# Altium integrated library NSC ADC.IntLib: 493 symbols (part 7 of 17)
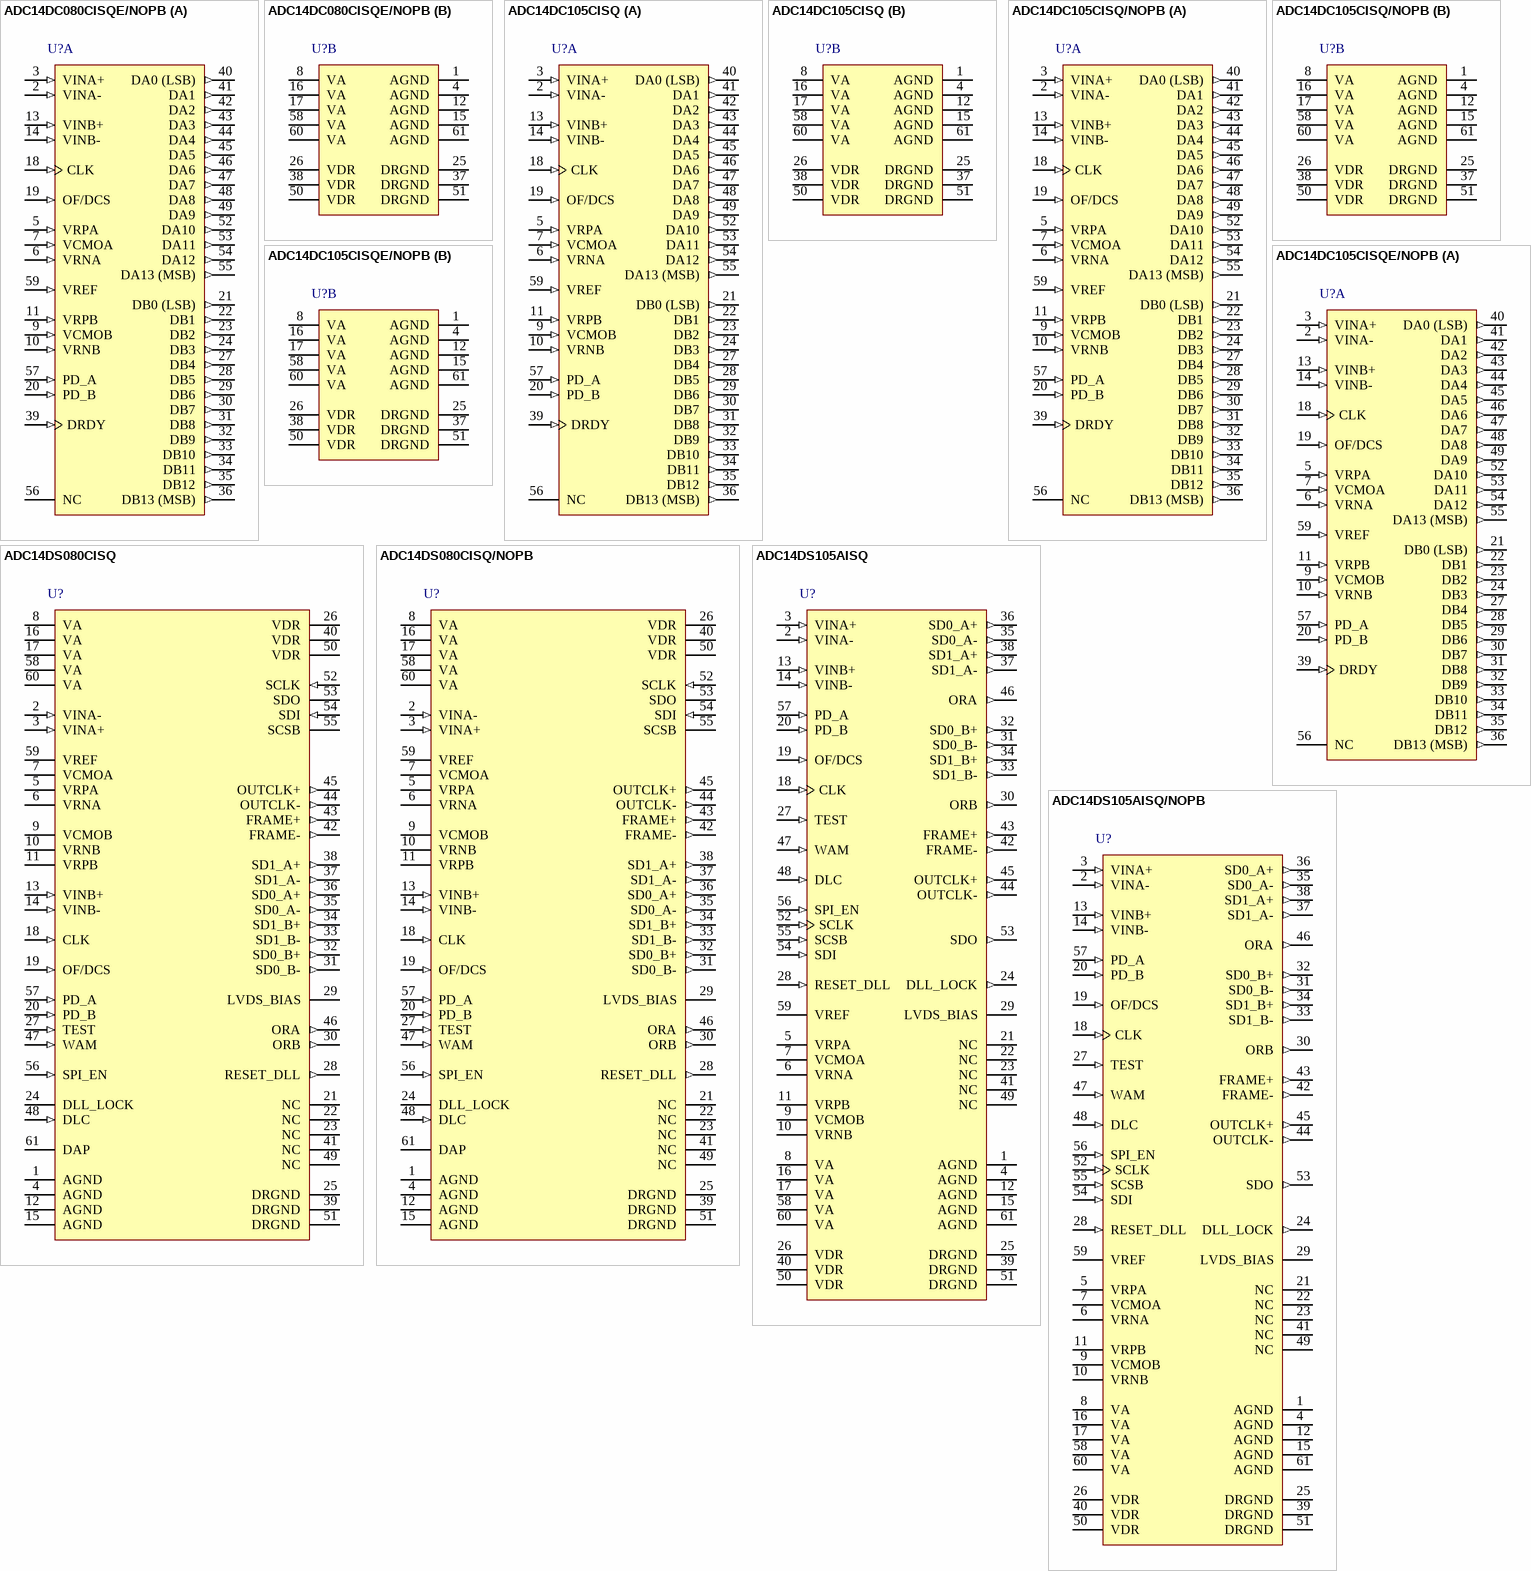
[diagram p42: symbols ADC14DC080CISQE/NOPB to ADC14DS105AISQ/NOPB]

## ADC14DS080CISQ
designator U?
Dual 14-Bit, 80 MSPS A/D Converter with Serial LVDS Outputs, 61-pin LLP; PartNumber: ADC14DS080CISQ; Manufacturer: National Semiconductor; PackageTopMarking: NS*UZXYTT*14DS080; PowerWise: Y; CompType: ADC IC; Published: 4-Dec-2008; DatasheetVersion: Dec-2007; PackageVersion: revA, Jun-2005; PackageReference: SQA60A; Publisher: Altium Limited; PackageDescription: LLP, Quad, 9 x 9 x 0.8mm, 60 Lead, 0.5mm Pitch, No Pullback; RoHS: Y; PinCount: 60; ComponentLink1Description: ADC14DS080 Datasheet; ComponentLink1URL: http://www.national.com/ds/AD/ADC14DS080.pdf; ComponentLink2Description: ADC14DS080 Web Page; ComponentLink2URL: http://www.national.com/pf/AD/ADC14DS080.html; ComponentLink3Description: SQA60A Package Page; ComponentLink3URL: http://www.national.com/packaging/folders/sqa60a.html
footprint SQA60A (QFN, 60-Leads, Body 9x9mm, Pitch 0.5mm, NSC Recommended)
pins: 1 AGND (power), 2 VINA- (in), 3 VINA+ (in), 4 AGND (power), 5 VRPA, 6 VRNA, 7 VCMOA, 8 VA (power), 9 VCMOB, 10 VRNB, 11 VRPB, 12 AGND (power), 13 VINB+ (in), 14 VINB- (in), 15 AGND (power), 16 VA (power), 17 VA (power), 18 CLK (in), 19 OF/DCS (in), 20 PD_B (in), 21 NC, 22 NC, 23 NC, 24 DLL_LOCK, 25 DRGND (power), 26 VDR, 27 TEST (in), 28 RESET_DLL (out), 29 LVDS_BIAS, 30 ORB (out), 31 SD0_B- (out), 32 SD0_B+ (out), 33 SD1_B- (out), 34 SD1_B+ (out), 35 SD0_A- (out), 36 SD0_A+ (out), 37 SD1_A- (out), 38 SD1_A+ (out), 39 DRGND (power), 40 VDR, 41 NC, 42 FRAME- (out), 43 FRAME+ (out), 44 OUTCLK- (out), 45 OUTCLK+ (out), 46 ORA (out), 47 WAM (in), 48 DLC (in), 49 NC, 50 VDR, 51 DRGND (power), 52 SCLK (in), 53 SDO (hiz), 54 SDI (in), 55 SCSB, 56 SPI_EN (in), 57 PD_A (in), 58 VA (power), 59 VREF, 60 VA (power), 61 DAP

## ADC14DS080CISQ/NOPB
designator U?
Dual 14-Bit, 80 MSPS A/D Converter with Serial LVDS Outputs, 60-pin LLP, Pb-Free; PartNumber: ADC14DS080CISQ/NOPB; Manufacturer: National Semiconductor; PackageTopMarking: NS*UZXYTTE#*14DS080; PowerWise: Y; CompType: ADC IC; Published: 1-Mar-2010; DatasheetVersion: Dec-2007; PackageVersion: revA, Jun-2005; PackageReference: SQA60A; Publisher: Altium Limited; PackageDescription: LLP, Quad, 9 x 9 x 0.8mm, 60 Lead, 0.5mm Pitch, No Pullback; Supplier 1: Digi-Key; Supplier Part Number 1: ADC14DS080CISQTR-ND; Supplier 2: Digi-Key; Supplier Part Number 2: ADC14DS080CISQCT-ND; Supplier 3: Digi-Key; Supplier Part Number 3: ADC14DS080CISQDKR-ND; Supplier 4: Farnell; Supplier Part Number 4: 1673966; RoHS: Y; PinCount: 60; ComponentLink1Description: ADC14DS080 Datasheet; ComponentLink1URL: http://www.national.com/ds/AD/ADC14DS080.pdf; ComponentLink2Description: ADC14DS080 Web Page; ComponentLink2URL: http://www.national.com/pf/AD/ADC14DS080.html; ComponentLink3Description: SQA60A Package Page; ComponentLink3URL: http://www.national.com/packaging/folders/sqa60a.html
footprint SQA60A (QFN, 60-Leads, Body 9x9mm, Pitch 0.5mm, NSC Recommended)
pins: 1 AGND (power), 2 VINA- (in), 3 VINA+ (in), 4 AGND (power), 5 VRPA, 6 VRNA, 7 VCMOA, 8 VA (power), 9 VCMOB, 10 VRNB, 11 VRPB, 12 AGND (power), 13 VINB+ (in), 14 VINB- (in), 15 AGND (power), 16 VA (power), 17 VA (power), 18 CLK (in), 19 OF/DCS (in), 20 PD_B (in), 21 NC, 22 NC, 23 NC, 24 DLL_LOCK, 25 DRGND (power), 26 VDR, 27 TEST (in), 28 RESET_DLL (out), 29 LVDS_BIAS, 30 ORB (out), 31 SD0_B- (out), 32 SD0_B+ (out), 33 SD1_B- (out), 34 SD1_B+ (out), 35 SD0_A- (out), 36 SD0_A+ (out), 37 SD1_A- (out), 38 SD1_A+ (out), 39 DRGND (power), 40 VDR, 41 NC, 42 FRAME- (out), 43 FRAME+ (out), 44 OUTCLK- (out), 45 OUTCLK+ (out), 46 ORA (out), 47 WAM (in), 48 DLC (in), 49 NC, 50 VDR, 51 DRGND (power), 52 SCLK (in), 53 SDO (hiz), 54 SDI (in), 55 SCSB, 56 SPI_EN (in), 57 PD_A (in), 58 VA (power), 59 VREF, 60 VA (power), 61 DAP

## ADC14DS105AISQ
designator U?
Dual 14-Bit, 105 MSPS A/D Converter with Serial LVDS Outputs, 61-pin LLP; PartNumber: ADC14DS105AISQ; Manufacturer: National Semiconductor; PackageTopMarking: NS*UZXYTT*14DS105A; PowerWise: N; CompType: ADC IC; Published: 4-Dec-2008; DatasheetVersion: Dec-2007; PackageVersion: revA, Jun-2005; PackageReference: SQA60A; Publisher: Altium Limited; PackageDescription: LLP, Quad, 9 x 9 x 0.8mm, 60 Lead, 0.5mm Pitch, No Pullback; RoHS: Y; PinCount: 60; ComponentLink1Description: ADC14DS105 Datasheet; ComponentLink1URL: http://www.national.com/ds/AD/ADC14DS105.pdf; ComponentLink2Description: ADC14DS105 Web Page; ComponentLink2URL: http://www.national.com/pf/AD/ADC14DS105.html; ComponentLink3Description: SQA60A Package Page; ComponentLink3URL: http://www.national.com/packaging/folders/sqa60a.html
footprint SQA60A (QFN, 60-Leads, Body 9x9mm, Pitch 0.5mm, NSC Recommended)
pins: 1 AGND (power), 2 VINA- (in), 3 VINA+ (in), 4 AGND (power), 5 VRPA, 6 VRNA, 7 VCMOA, 8 VA (power), 9 VCMOB, 10 VRNB, 11 VRPB, 12 AGND (power), 13 VINB+ (in), 14 VINB- (in), 15 AGND (power), 16 VA (power), 17 VA (power), 18 CLK (in), 19 OF/DCS (in), 20 PD_B (in), 21 NC, 22 NC, 23 NC, 24 DLL_LOCK (out), 25 DRGND (power), 26 VDR (power), 27 TEST (in), 28 RESET_DLL (in), 29 LVDS_BIAS, 30 ORB (out), 31 SD0_B- (out), 32 SD0_B+ (out), 33 SD1_B- (out), 34 SD1_B+ (out), 35 SD0_A- (out), 36 SD0_A+ (out), 37 SD1_A- (out), 38 SD1_A+ (out), 39 DRGND (power), 40 VDR (power), 41 NC, 42 FRAME- (out), 43 FRAME+ (out), 44 OUTCLK- (out), 45 OUTCLK+ (out), 46 ORA (out), 47 WAM (in), 48 DLC (in), 49 NC, 50 VDR (power), 51 DRGND (power), 52 SCLK (in), 53 SDO (out), 54 SDI (in), 55 SCSB (in), 56 SPI_EN (in), 57 PD_A (in), 58 VA (power), 59 VREF (power), 60 VA (power), 61 AGND (power)

## ADC14DS105AISQ/NOPB
designator U?
Dual 14-Bit, 105 MSPS A/D Converter with Serial LVDS Outputs, 60-pin LLP, Pb-Free; PartNumber: ADC14DS105AISQ/NOPB; Manufacturer: National Semiconductor; PackageTopMarking: NS*UZXYTTE#*14DS105A; PowerWise: N; CompType: ADC IC; Published: 1-Mar-2010; DatasheetVersion: Dec-2007; PackageVersion: revA, Jun-2005; PackageReference: SQA60A; Publisher: Altium Limited; PackageDescription: LLP, Quad, 9 x 9 x 0.8mm, 60 Lead, 0.5mm Pitch, No Pullback; Supplier 1: Digi-Key; Supplier Part Number 1: ADC14DS105AISQTR-ND; Supplier 2: Digi-Key; Supplier Part Number 2: ADC14DS105AISQCT-ND; Supplier 3: Digi-Key; Supplier Part Number 3: ADC14DS105AISQDKR-ND; RoHS: Y; PinCount: 60; ComponentLink1Description: ADC14DS105 Datasheet; ComponentLink1URL: http://www.national.com/ds/AD/ADC14DS105.pdf; ComponentLink2Description: ADC14DS105 Web Page; ComponentLink2URL: http://www.national.com/pf/AD/ADC14DS105.html; ComponentLink3Description: SQA60A Package Page; ComponentLink3URL: http://www.national.com/packaging/folders/sqa60a.html
footprint SQA60A (QFN, 60-Leads, Body 9x9mm, Pitch 0.5mm, NSC Recommended)
pins: 1 AGND (power), 2 VINA- (in), 3 VINA+ (in), 4 AGND (power), 5 VRPA, 6 VRNA, 7 VCMOA, 8 VA (power), 9 VCMOB, 10 VRNB, 11 VRPB, 12 AGND (power), 13 VINB+ (in), 14 VINB- (in), 15 AGND (power), 16 VA (power), 17 VA (power), 18 CLK (in), 19 OF/DCS (in), 20 PD_B (in), 21 NC, 22 NC, 23 NC, 24 DLL_LOCK (out), 25 DRGND (power), 26 VDR (power), 27 TEST (in), 28 RESET_DLL (in), 29 LVDS_BIAS, 30 ORB (out), 31 SD0_B- (out), 32 SD0_B+ (out), 33 SD1_B- (out), 34 SD1_B+ (out), 35 SD0_A- (out), 36 SD0_A+ (out), 37 SD1_A- (out), 38 SD1_A+ (out), 39 DRGND (power), 40 VDR (power), 41 NC, 42 FRAME- (out), 43 FRAME+ (out), 44 OUTCLK- (out), 45 OUTCLK+ (out), 46 ORA (out), 47 WAM (in), 48 DLC (in), 49 NC, 50 VDR (power), 51 DRGND (power), 52 SCLK (in), 53 SDO (out), 54 SDI (in), 55 SCSB (in), 56 SPI_EN (in), 57 PD_A (in), 58 VA (power), 59 VREF (power), 60 VA (power), 61 AGND (power)

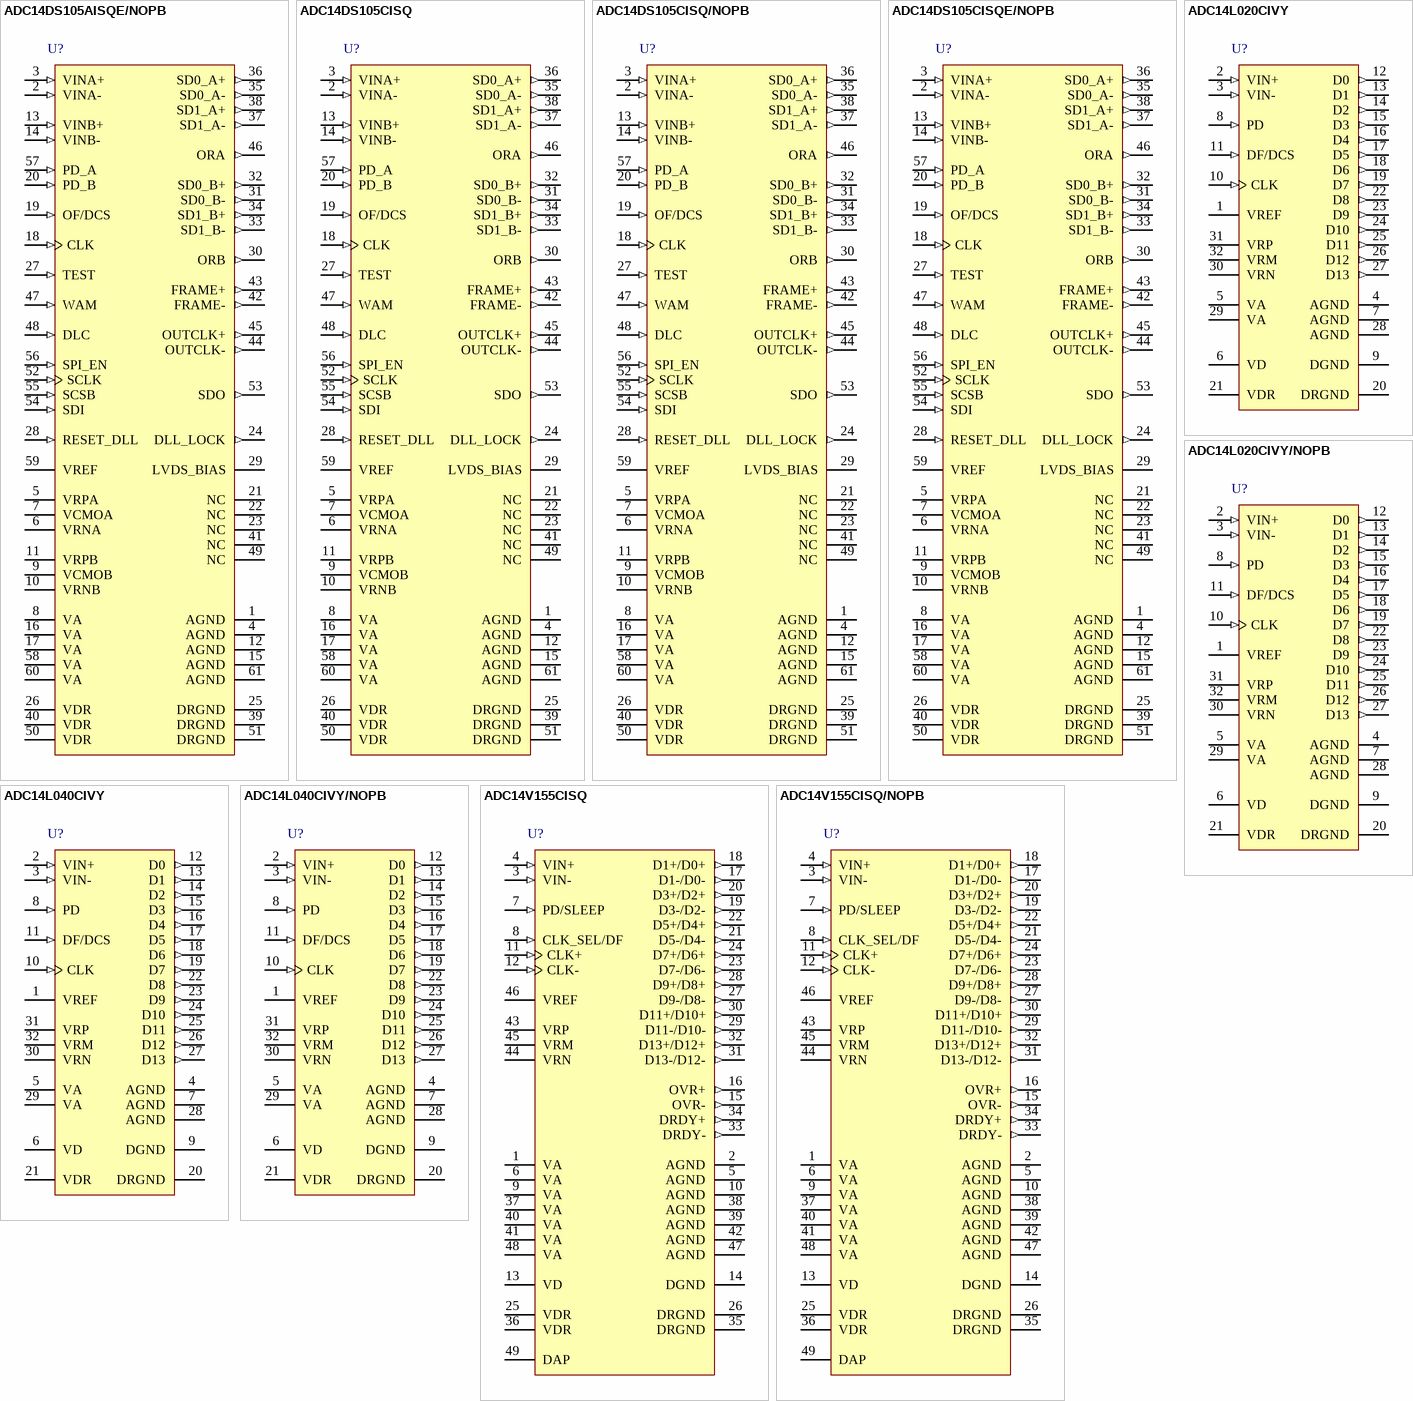
[diagram p21: symbols ADC14DS105AISQE/NOPB to ADC14V155CISQ/NOPB]

## ADC14DS105AISQE/NOPB
designator U?
Dual 14-Bit, 105 MSPS A/D Converter with Serial LVDS Outputs, 60-pin LLP, Pb-Free; PartNumber: ADC14DS105AISQE/NOPB; Manufacturer: National Semiconductor; PackageTopMarking: NS*UZXYTTE#*14DS105A; PowerWise: N; CompType: ADC IC; Published: 1-Mar-2010; DatasheetVersion: Dec-2007; PackageVersion: revA, Jun-2005; PackageReference: SQA60A; Publisher: Altium Limited; PackageDescription: LLP, Quad, 9 x 9 x 0.8mm, 60 Lead, 0.5mm Pitch, No Pullback; Supplier 1: Digi-Key; Supplier Part Number 1: ADC14DS105AISQE-ND; RoHS: Y; PinCount: 60; ComponentLink1Description: ADC14DS105 Datasheet; ComponentLink1URL: http://www.national.com/ds/AD/ADC14DS105.pdf; ComponentLink2Description: ADC14DS105 Web Page; ComponentLink2URL: http://www.national.com/pf/AD/ADC14DS105.html; ComponentLink3Description: SQA60A Package Page; ComponentLink3URL: http://www.national.com/packaging/folders/sqa60a.html
footprint SQA60A (QFN, 60-Leads, Body 9x9mm, Pitch 0.5mm, NSC Recommended)
pins: 1 AGND (power), 2 VINA- (in), 3 VINA+ (in), 4 AGND (power), 5 VRPA, 6 VRNA, 7 VCMOA, 8 VA (power), 9 VCMOB, 10 VRNB, 11 VRPB, 12 AGND (power), 13 VINB+ (in), 14 VINB- (in), 15 AGND (power), 16 VA (power), 17 VA (power), 18 CLK (in), 19 OF/DCS (in), 20 PD_B (in), 21 NC, 22 NC, 23 NC, 24 DLL_LOCK (out), 25 DRGND (power), 26 VDR (power), 27 TEST (in), 28 RESET_DLL (in), 29 LVDS_BIAS, 30 ORB (out), 31 SD0_B- (out), 32 SD0_B+ (out), 33 SD1_B- (out), 34 SD1_B+ (out), 35 SD0_A- (out), 36 SD0_A+ (out), 37 SD1_A- (out), 38 SD1_A+ (out), 39 DRGND (power), 40 VDR (power), 41 NC, 42 FRAME- (out), 43 FRAME+ (out), 44 OUTCLK- (out), 45 OUTCLK+ (out), 46 ORA (out), 47 WAM (in), 48 DLC (in), 49 NC, 50 VDR (power), 51 DRGND (power), 52 SCLK (in), 53 SDO (out), 54 SDI (in), 55 SCSB (in), 56 SPI_EN (in), 57 PD_A (in), 58 VA (power), 59 VREF (power), 60 VA (power), 61 AGND (power)

## ADC14DS105CISQ
designator U?
Dual 14-Bit, 105 MSPS A/D Converter with Serial LVDS Outputs, 61-pin LLP; PartNumber: ADC14DS105CISQ; Manufacturer: National Semiconductor; PackageTopMarking: NS*UZXYTT*14DS105C; PowerWise: Y; CompType: ADC IC; Published: 4-Dec-2008; DatasheetVersion: Dec-2007; PackageVersion: revA, Jun-2005; PackageReference: SQA60A; Publisher: Altium Limited; PackageDescription: LLP, Quad, 9 x 9 x 0.8mm, 60 Lead, 0.5mm Pitch, No Pullback; RoHS: N; PinCount: 60; ComponentLink1Description: ADC14DS105 Datasheet; ComponentLink1URL: http://www.national.com/ds/AD/ADC14DS105.pdf; ComponentLink2Description: ADC14DS105 Web Page; ComponentLink2URL: http://www.national.com/pf/AD/ADC14DS105.html; ComponentLink3Description: SQA60A Package Page; ComponentLink3URL: http://www.national.com/packaging/folders/sqa60a.html
footprint SQA60A (QFN, 60-Leads, Body 9x9mm, Pitch 0.5mm, NSC Recommended)
pins: 1 AGND (power), 2 VINA- (in), 3 VINA+ (in), 4 AGND (power), 5 VRPA, 6 VRNA, 7 VCMOA, 8 VA (power), 9 VCMOB, 10 VRNB, 11 VRPB, 12 AGND (power), 13 VINB+ (in), 14 VINB- (in), 15 AGND (power), 16 VA (power), 17 VA (power), 18 CLK (in), 19 OF/DCS (in), 20 PD_B (in), 21 NC, 22 NC, 23 NC, 24 DLL_LOCK (out), 25 DRGND (power), 26 VDR (power), 27 TEST (in), 28 RESET_DLL (in), 29 LVDS_BIAS, 30 ORB (out), 31 SD0_B- (out), 32 SD0_B+ (out), 33 SD1_B- (out), 34 SD1_B+ (out), 35 SD0_A- (out), 36 SD0_A+ (out), 37 SD1_A- (out), 38 SD1_A+ (out), 39 DRGND (power), 40 VDR (power), 41 NC, 42 FRAME- (out), 43 FRAME+ (out), 44 OUTCLK- (out), 45 OUTCLK+ (out), 46 ORA (out), 47 WAM (in), 48 DLC (in), 49 NC, 50 VDR (power), 51 DRGND (power), 52 SCLK (in), 53 SDO (out), 54 SDI (in), 55 SCSB (in), 56 SPI_EN (in), 57 PD_A (in), 58 VA (power), 59 VREF (power), 60 VA (power), 61 AGND (power)

## ADC14DS105CISQ/NOPB
designator U?
Dual 14-Bit, 105 MSPS A/D Converter with Serial LVDS Outputs, 60-pin LLP, Pb-Free; PartNumber: ADC14DS105CISQ/NOPB; Manufacturer: National Semiconductor; PackageTopMarking: NS*UZXYTTE#*14DS105C; PowerWise: Y; CompType: ADC IC; Published: 1-Mar-2010; DatasheetVersion: Dec-2007; PackageVersion: revA, Jun-2005; PackageReference: SQA60A; Publisher: Altium Limited; PackageDescription: LLP, Quad, 9 x 9 x 0.8mm, 60 Lead, 0.5mm Pitch, No Pullback; Supplier 1: Digi-Key; Supplier Part Number 1: ADC14DS105CISQ-ND; RoHS: Y; PinCount: 60; ComponentLink1Description: ADC14DS105 Datasheet; ComponentLink1URL: http://www.national.com/ds/AD/ADC14DS105.pdf; ComponentLink2Description: ADC14DS105 Web Page; ComponentLink2URL: http://www.national.com/pf/AD/ADC14DS105.html; ComponentLink3Description: SQA60A Package Page; ComponentLink3URL: http://www.national.com/packaging/folders/sqa60a.html
footprint SQA60A (QFN, 60-Leads, Body 9x9mm, Pitch 0.5mm, NSC Recommended)
pins: 1 AGND (power), 2 VINA- (in), 3 VINA+ (in), 4 AGND (power), 5 VRPA, 6 VRNA, 7 VCMOA, 8 VA (power), 9 VCMOB, 10 VRNB, 11 VRPB, 12 AGND (power), 13 VINB+ (in), 14 VINB- (in), 15 AGND (power), 16 VA (power), 17 VA (power), 18 CLK (in), 19 OF/DCS (in), 20 PD_B (in), 21 NC, 22 NC, 23 NC, 24 DLL_LOCK (out), 25 DRGND (power), 26 VDR (power), 27 TEST (in), 28 RESET_DLL (in), 29 LVDS_BIAS, 30 ORB (out), 31 SD0_B- (out), 32 SD0_B+ (out), 33 SD1_B- (out), 34 SD1_B+ (out), 35 SD0_A- (out), 36 SD0_A+ (out), 37 SD1_A- (out), 38 SD1_A+ (out), 39 DRGND (power), 40 VDR (power), 41 NC, 42 FRAME- (out), 43 FRAME+ (out), 44 OUTCLK- (out), 45 OUTCLK+ (out), 46 ORA (out), 47 WAM (in), 48 DLC (in), 49 NC, 50 VDR (power), 51 DRGND (power), 52 SCLK (in), 53 SDO (out), 54 SDI (in), 55 SCSB (in), 56 SPI_EN (in), 57 PD_A (in), 58 VA (power), 59 VREF (power), 60 VA (power), 61 AGND (power)

## ADC14DS105CISQE/NOPB
designator U?
Dual 14-Bit, 105 MSPS A/D Converter with Serial LVDS Outputs, 60-pin LLP, Pb-Free; PartNumber: ADC14DS105CISQE/NOPB; Manufacturer: National Semiconductor; PackageTopMarking: NS*UZXYTTE#*14DS105C; PowerWise: N; CompType: ADC IC; Published: 1-Mar-2010; DatasheetVersion: Dec-2007; PackageVersion: revA, Jun-2005; PackageReference: SQA60A; Publisher: Altium Limited; PackageDescription: LLP, Quad, 9 x 9 x 0.8mm, 60 Lead, 0.5mm Pitch, No Pullback; Supplier 1: Digi-Key; Supplier Part Number 1: ADC14DS105CISQETR-ND; Supplier 2: Digi-Key; Supplier Part Number 2: ADC14DS105CISQECT-ND; Supplier 3: Digi-Key; Supplier Part Number 3: ADC14DS105CISQEDKR-ND; RoHS: Y; PinCount: 60; ComponentLink1Description: ADC14DS105 Datasheet; ComponentLink1URL: http://www.national.com/ds/AD/ADC14DS105.pdf; ComponentLink2Description: ADC14DS105 Web Page; ComponentLink2URL: http://www.national.com/pf/AD/ADC14DS105.html; ComponentLink3Description: SQA60A Package Page; ComponentLink3URL: http://www.national.com/packaging/folders/sqa60a.html
footprint SQA60A (QFN, 60-Leads, Body 9x9mm, Pitch 0.5mm, NSC Recommended)
pins: 1 AGND (power), 2 VINA- (in), 3 VINA+ (in), 4 AGND (power), 5 VRPA, 6 VRNA, 7 VCMOA, 8 VA (power), 9 VCMOB, 10 VRNB, 11 VRPB, 12 AGND (power), 13 VINB+ (in), 14 VINB- (in), 15 AGND (power), 16 VA (power), 17 VA (power), 18 CLK (in), 19 OF/DCS (in), 20 PD_B (in), 21 NC, 22 NC, 23 NC, 24 DLL_LOCK (out), 25 DRGND (power), 26 VDR (power), 27 TEST (in), 28 RESET_DLL (in), 29 LVDS_BIAS, 30 ORB (out), 31 SD0_B- (out), 32 SD0_B+ (out), 33 SD1_B- (out), 34 SD1_B+ (out), 35 SD0_A- (out), 36 SD0_A+ (out), 37 SD1_A- (out), 38 SD1_A+ (out), 39 DRGND (power), 40 VDR (power), 41 NC, 42 FRAME- (out), 43 FRAME+ (out), 44 OUTCLK- (out), 45 OUTCLK+ (out), 46 ORA (out), 47 WAM (in), 48 DLC (in), 49 NC, 50 VDR (power), 51 DRGND (power), 52 SCLK (in), 53 SDO (out), 54 SDI (in), 55 SCSB (in), 56 SPI_EN (in), 57 PD_A (in), 58 VA (power), 59 VREF (power), 60 VA (power), 61 AGND (power)

## ADC14L020CIVY
designator U?
14-Bit, 20 MSPS, 150mW A/D Converter, 32-pin LQFP; PartNumber: ADC14L020CIVY; Manufacturer: National Semiconductor; PackageTopMarking: NSUZXYTT*ADC14L0*20CIVY; PowerWise: Y; CompType: ADC IC; Published: 4-Dec-2008; DatasheetVersion: Sep-2005; PackageVersion: revE, Dec-1999; PackageReference: VBE32A; Publisher: Altium Limited; PackageDescription: LQFP, JEDEC, Metric, 7 x 7 x 1.4mm, 32 Lead; Supplier 1: Farnell; Supplier Part Number 1: 1554775; RoHS: N; PinCount: 32; ComponentLink1Description: ADC14L020 Datasheet; ComponentLink1URL: http://www.national.com/ds/AD/ADC14L020.pdf; ComponentLink2Description: ADC14L020 Web Page; ComponentLink2URL: http://www.national.com/pf/AD/ADC14L020.html; ComponentLink3Description: VBE32A Package Page; ComponentLink3URL: http://www.national.com/packaging/folders/vbe32a.html
footprint VBE32A_N (Thin QFP, 32-Leads, Body 7x7mm, Pitch 0.8mm, IPC Medium Density)
footprint VBE32A_L (Thin QFP, 32-Leads, Body 7x7mm, Pitch 0.8mm, IPC High Density)
footprint VBE32A_M (Thin QFP, 32-Leads, Body 7x7mm, Pitch 0.8mm, IPC Low Density)
pins: 1 VREF (power), 2 VIN+ (in), 3 VIN- (in), 4 AGND (power), 5 VA (power), 6 VD (power), 7 AGND (power), 8 PD (in), 9 DGND (power), 10 CLK (in), 11 DF/DCS (in), 12 D0 (out), 13 D1 (out), 14 D2 (out), 15 D3 (out), 16 D4 (out), 17 D5 (out), 18 D6 (out), 19 D7 (out), 20 DRGND (power), 21 VDR (power), 22 D8 (out), 23 D9 (out), 24 D10 (out), 25 D11 (out), 26 D12 (out), 27 D13 (out), 28 AGND (power), 29 VA (power), 30 VRN, 31 VRP, 32 VRM

## ADC14L020CIVY/NOPB
designator U?
14-Bit, 20 MSPS, 150mW A/D Converter, 32-pin LQFP, Pb-Free; PartNumber: ADC14L020CIVY/NOPB; Manufacturer: National Semiconductor; PackageTopMarking: NSUZXYTT*ADC14L0*20CIVY; PowerWise: Y; CompType: ADC IC; Published: 1-Mar-2010; DatasheetVersion: Sep-2005; PackageVersion: revE, Dec-1999; PackageReference: VBE32A; Publisher: Altium Limited; PackageDescription: LQFP, JEDEC, Metric, 7 x 7 x 1.4mm, 32 Lead; Supplier 1: Digi-Key; Supplier Part Number 1: ADC14L020CIVY-ND; Supplier 2: Farnell; Supplier Part Number 2: 1609383; RoHS: Y; PinCount: 32; ComponentLink1Description: ADC14L020 Datasheet; ComponentLink1URL: http://www.national.com/ds/AD/ADC14L020.pdf; ComponentLink2Description: ADC14L020 Web Page; ComponentLink2URL: http://www.national.com/pf/AD/ADC14L020.html; ComponentLink3Description: VBE32A Package Page; ComponentLink3URL: http://www.national.com/packaging/folders/vbe32a.html
footprint VBE32A_N (Thin QFP, 32-Leads, Body 7x7mm, Pitch 0.8mm, IPC Medium Density)
footprint VBE32A_L (Thin QFP, 32-Leads, Body 7x7mm, Pitch 0.8mm, IPC High Density)
footprint VBE32A_M (Thin QFP, 32-Leads, Body 7x7mm, Pitch 0.8mm, IPC Low Density)
pins: 1 VREF (power), 2 VIN+ (in), 3 VIN- (in), 4 AGND (power), 5 VA (power), 6 VD (power), 7 AGND (power), 8 PD (in), 9 DGND (power), 10 CLK (in), 11 DF/DCS (in), 12 D0 (out), 13 D1 (out), 14 D2 (out), 15 D3 (out), 16 D4 (out), 17 D5 (out), 18 D6 (out), 19 D7 (out), 20 DRGND (power), 21 VDR (power), 22 D8 (out), 23 D9 (out), 24 D10 (out), 25 D11 (out), 26 D12 (out), 27 D13 (out), 28 AGND (power), 29 VA (power), 30 VRN, 31 VRP, 32 VRM

## ADC14L040CIVY
designator U?
14-Bit, 40 MSPS, 235 mW A/D Converter, 32-pin LQFP; PartNumber: ADC14L040CIVY; Manufacturer: National Semiconductor; PackageTopMarking: NSUZXYTT*ADC14L0*40CIVY; PowerWise: Y; CompType: ADC IC; Published: 4-Dec-2008; DatasheetVersion: Jun-2005; PackageVersion: revE, Dec-1999; PackageReference: VBE32A; Publisher: Altium Limited; PackageDescription: LQFP, JEDEC, Metric, 7 x 7 x 1.4mm, 32 Lead; Supplier 1: Farnell; Supplier Part Number 1: 1554776; RoHS: N; PinCount: 32; ComponentLink1Description: ADC14L040 Datasheet; ComponentLink1URL: http://www.national.com/ds/AD/ADC14L040.pdf; ComponentLink2Description: ADC14L040 Web Page; ComponentLink2URL: http://www.national.com/pf/AD/ADC14L040.html; ComponentLink3Description: VBE32A Package Page; ComponentLink3URL: http://www.national.com/packaging/folders/vbe32a.html
footprint VBE32A_N (Thin QFP, 32-Leads, Body 7x7mm, Pitch 0.8mm, IPC Medium Density)
footprint VBE32A_L (Thin QFP, 32-Leads, Body 7x7mm, Pitch 0.8mm, IPC High Density)
footprint VBE32A_M (Thin QFP, 32-Leads, Body 7x7mm, Pitch 0.8mm, IPC Low Density)
pins: 1 VREF (power), 2 VIN+ (in), 3 VIN- (in), 4 AGND (power), 5 VA (power), 6 VD (power), 7 AGND (power), 8 PD (in), 9 DGND (power), 10 CLK (in), 11 DF/DCS (in), 12 D0 (out), 13 D1 (out), 14 D2 (out), 15 D3 (out), 16 D4 (out), 17 D5 (out), 18 D6 (out), 19 D7 (out), 20 DRGND (power), 21 VDR (power), 22 D8 (out), 23 D9 (out), 24 D10 (out), 25 D11 (out), 26 D12 (out), 27 D13 (out), 28 AGND (power), 29 VA (power), 30 VRN, 31 VRP, 32 VRM

## ADC14L040CIVY/NOPB
designator U?
14-Bit, 40 MSPS, 235 mW A/D Converter, 32-pin LQFP, Pb-Free; PartNumber: ADC14L040CIVY/NOPB; Manufacturer: National Semiconductor; PackageTopMarking: NSUZXYTT*ADC14L0*40CIVY; PowerWise: Y; CompType: ADC IC; Published: 1-Mar-2010; DatasheetVersion: Jun-2005; PackageVersion: revE, Dec-1999; PackageReference: VBE32A; Publisher: Altium Limited; PackageDescription: LQFP, JEDEC, Metric, 7 x 7 x 1.4mm, 32 Lead; Supplier 1: Digi-Key; Supplier Part Number 1: ADC14L040CIVY-ND; Supplier 2: Farnell; Supplier Part Number 2: 1620762; RoHS: Y; PinCount: 32; ComponentLink1Description: ADC14L040 Datasheet; ComponentLink1URL: http://www.national.com/ds/AD/ADC14L040.pdf; ComponentLink2Description: ADC14L040 Web Page; ComponentLink2URL: http://www.national.com/pf/AD/ADC14L040.html; ComponentLink3Description: VBE32A Package Page; ComponentLink3URL: http://www.national.com/packaging/folders/vbe32a.html
footprint VBE32A_N (Thin QFP, 32-Leads, Body 7x7mm, Pitch 0.8mm, IPC Medium Density)
footprint VBE32A_L (Thin QFP, 32-Leads, Body 7x7mm, Pitch 0.8mm, IPC High Density)
footprint VBE32A_M (Thin QFP, 32-Leads, Body 7x7mm, Pitch 0.8mm, IPC Low Density)
pins: 1 VREF (power), 2 VIN+ (in), 3 VIN- (in), 4 AGND (power), 5 VA (power), 6 VD (power), 7 AGND (power), 8 PD (in), 9 DGND (power), 10 CLK (in), 11 DF/DCS (in), 12 D0 (out), 13 D1 (out), 14 D2 (out), 15 D3 (out), 16 D4 (out), 17 D5 (out), 18 D6 (out), 19 D7 (out), 20 DRGND (power), 21 VDR (power), 22 D8 (out), 23 D9 (out), 24 D10 (out), 25 D11 (out), 26 D12 (out), 27 D13 (out), 28 AGND (power), 29 VA (power), 30 VRN, 31 VRP, 32 VRM

## ADC14V155CISQ
designator U?
14-Bit, 155 MSPS, 1.1 GHz Bandwidth A/D Converter with LVDS Outputs, 49-pin LLP; PartNumber: ADC14V155CISQ; Manufacturer: National Semiconductor; PackageTopMarking: NS*UZXYTTE#*14V155SQ; PowerWise: Y; CompType: ADC IC; Published: 4-Dec-2008; DatasheetVersion: Apr-2009; PackageVersion: revB, May-2009; PackageReference: SQA48A; Publisher: Altium Limited; PackageDescription: LLP, Plastic, Quad, 7 x 7 x 0.8mm Body, 48 Lead, 0.5mm Pitch, No Pullback; RoHS: N; PinCount: 48; Code_JEDEC: MO-220-WKKD-2; ComponentLink1Description: ADC14V155 Datasheet; ComponentLink1URL: http://www.national.com/ds/AD/ADC14V155.pdf; ComponentLink2Description: ADC14V155 Web Page; ComponentLink2URL: http://www.national.com/pf/AD/ADC14V155.html; ComponentLink3Description: SQA48A Package Page; ComponentLink3URL: http://www.national.com/packaging/folders/sqa48a.html
footprint SQA48A (QFN, 48-Leads, Body 7x7mm, Pitch 0.5mm, NSC Recommended)
pins: 1 VA (power), 2 AGND (power), 3 VIN- (in), 4 VIN+ (in), 5 AGND (power), 6 VA (power), 7 PD/SLEEP (in), 8 CLK_SEL/DF (in), 9 VA (power), 10 AGND (power), 11 CLK+ (in), 12 CLK- (in), 13 VD (power), 14 DGND (power), 15 OVR- (out), 16 OVR+ (out), 17 D1-/D0- (out), 18 D1+/D0+ (out), 19 D3-/D2- (out), 20 D3+/D2+ (out), 21 D5-/D4- (out), 22 D5+/D4+ (out), 23 D7-/D6- (out), 24 D7+/D6+ (out), 25 VDR (power), 26 DRGND (power), 27 D9-/D8- (out), 28 D9+/D8+ (out), 29 D11-/D10- (out), 30 D11+/D10+ (out), 31 D13-/D12- (out), 32 D13+/D12+ (out), 33 DRDY- (out), 34 DRDY+ (out), 35 DRGND (power), 36 VDR (power), 37 VA (power), 38 AGND (power), 39 AGND (power), 40 VA (power), 41 VA (power), 42 AGND (power), 43 VRP, 44 VRN, 45 VRM, 46 VREF (power), 47 AGND (power), 48 VA (power), 49 DAP (power)

## ADC14V155CISQ/NOPB
designator U?
14-Bit, 155 MSPS, 1.1 GHz Bandwidth A/D Converter with LVDS Outputs, 48-pin LLP, Pb-Free; PartNumber: ADC14V155CISQ/NOPB; Manufacturer: National Semiconductor; PackageTopMarking: NS*UZXYTTE#*14V155SQ; PowerWise: Y; CompType: ADC IC; Published: 1-Mar-2010; DatasheetVersion: Apr-2009; PackageVersion: revB, May-2009; PackageReference: SQA48A; Publisher: Altium Limited; PackageDescription: LLP, Plastic, Quad, 7 x 7 x 0.8mm Body, 48 Lead, 0.5mm Pitch, No Pullback; Supplier 1: Digi-Key; Supplier Part Number 1: ADC14V155CISQTR-ND; Supplier 2: Digi-Key; Supplier Part Number 2: ADC14V155CISQCT-ND; Supplier 3: Digi-Key; Supplier Part Number 3: ADC14V155CISQDKR-ND; Supplier 4: Farnell; Supplier Part Number 4: 1545476; RoHS: Y; PinCount: 48; Code_JEDEC: MO-220-WKKD-2; ComponentLink1Description: ADC14V155 Datasheet; ComponentLink1URL: http://www.national.com/ds/AD/ADC14V155.pdf; ComponentLink2Description: ADC14V155 Web Page; ComponentLink2URL: http://www.national.com/pf/AD/ADC14V155.html; ComponentLink3Description: SQA48A Package Page; ComponentLink3URL: http://www.national.com/packaging/folders/sqa48a.html
footprint SQA48A (QFN, 48-Leads, Body 7x7mm, Pitch 0.5mm, NSC Recommended)
pins: 1 VA (power), 2 AGND (power), 3 VIN- (in), 4 VIN+ (in), 5 AGND (power), 6 VA (power), 7 PD/SLEEP (in), 8 CLK_SEL/DF (in), 9 VA (power), 10 AGND (power), 11 CLK+ (in), 12 CLK- (in), 13 VD (power), 14 DGND (power), 15 OVR- (out), 16 OVR+ (out), 17 D1-/D0- (out), 18 D1+/D0+ (out), 19 D3-/D2- (out), 20 D3+/D2+ (out), 21 D5-/D4- (out), 22 D5+/D4+ (out), 23 D7-/D6- (out), 24 D7+/D6+ (out), 25 VDR (power), 26 DRGND (power), 27 D9-/D8- (out), 28 D9+/D8+ (out), 29 D11-/D10- (out), 30 D11+/D10+ (out), 31 D13-/D12- (out), 32 D13+/D12+ (out), 33 DRDY- (out), 34 DRDY+ (out), 35 DRGND (power), 36 VDR (power), 37 VA (power), 38 AGND (power), 39 AGND (power), 40 VA (power), 41 VA (power), 42 AGND (power), 43 VRP, 44 VRN, 45 VRM, 46 VREF (power), 47 AGND (power), 48 VA (power), 49 DAP (power)

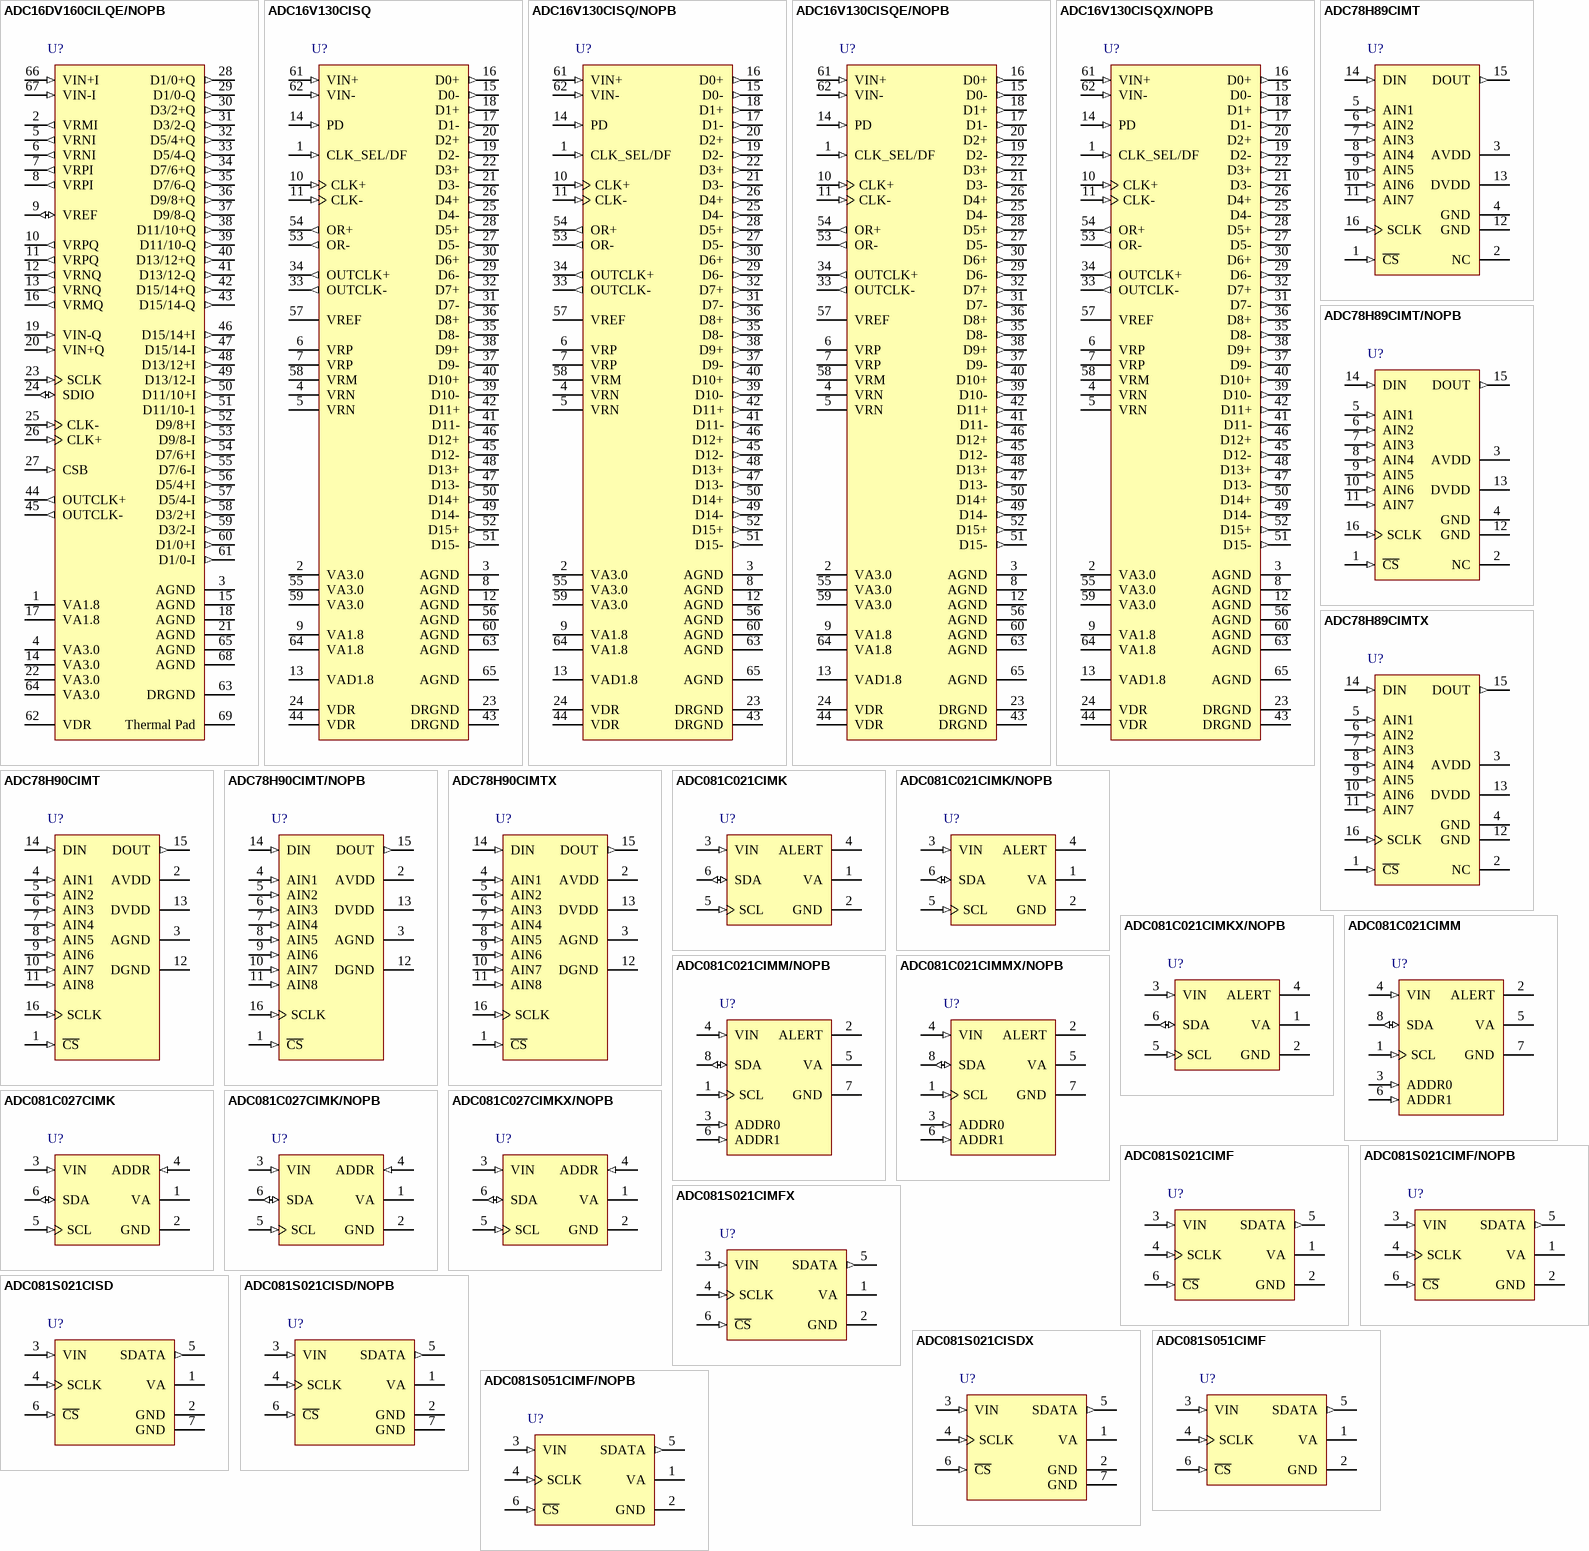
[diagram p22: symbols ADC16DV160CILQE/NOPB to ADC081S051CIMF/NOPB]

## ADC16DV160CILQE/NOPB
designator U?
Dual Channel, 16-Bit, 160 MSPS Analog-to-Digital Converter with DDR LVDS Outputs, 68-pin LLP; PartNumber: ADC16DV160CILQE/NOPB; Manufacturer: National Semiconductor; PackageTopMarking: NS*UZXYTTE#*ADC16DV160; PowerWise: Y; CompType: ADC IC; Published: 16-Nov-2010; DatasheetVersion: Jul-2010; PackageVersion: revB, Jul-2009; PackageReference: LQA68A; Publisher: Altium Limited; PackageDescription: LLP, Plastic, Quad, 10 x 10 x 1mm Body, 68 Lead, 0.5mm Pitch (7.7 x 7.7mm Exposed Pad); Supplier 1: Digi-Key; Supplier Part Number 1: ADC16DV160CILQE-ND; RoHS: Y; PinCount: 68; ComponentLink1Description: ADC16DV160 Datasheet; ComponentLink1URL: http://www.national.com/ds/AD/ADC16DV160.pdf; ComponentLink2Description: ADC16DV160 Web Page; ComponentLink2URL: http://www.national.com/pf/AD/ADC16DV160.html; ComponentLink3Description: LQA68A Package Page; ComponentLink3URL: http://www.national.com/packaging/folders/lqa68a.html
footprint LQA68A (QFN, 68-Leads, Body 10x10mm, Pitch 0.5mm, NSC Recommended)
pins: 1 VA1.8 (power), 2 VRMI (out), 3 AGND (power), 4 VA3.0 (power), 5 VRNI (out), 6 VRNI (out), 7 VRPI (out), 8 VRPI (out), 9 VREF (io), 10 VRPQ (out), 11 VRPQ (out), 12 VRNQ (out), 13 VRNQ (out), 14 VA3.0 (power), 15 AGND (power), 16 VRMQ (out), 17 VA1.8 (power), 18 AGND (power), 19 VIN-Q (in), 20 VIN+Q (in), 21 AGND (power), 22 VA3.0 (power), 23 SCLK (in), 24 SDIO (io), 25 CLK- (in), 26 CLK+ (in), 27 CSB (in), 28 D1/0+Q (out), 29 D1/0-Q (out), 30 D3/2+Q (out), 31 D3/2-Q (out), 32 D5/4+Q (out), 33 D5/4-Q (out), 34 D7/6+Q (out), 35 D7/6-Q (out), 36 D9/8+Q (out), 37 D9/8-Q (out), 38 D11/10+Q (out), 39 D11/10-Q (out), 40 D13/12+Q (out), 41 D13/12-Q (out), 42 D15/14+Q (out), 43 D15/14-Q (out), 44 OUTCLK+ (out), 45 OUTCLK- (out), 46 D15/14+I (out), 47 D15/14-I (out), 48 D13/12+I (out), 49 D13/12-I (out), 50 D11/10+I (out), 51 D11/10-1 (out), 52 D9/8+I (out), 53 D9/8-I (out), 54 D7/6+I (out), 55 D7/6-I (out), 56 D5/4+I (out), 57 D5/4-I (out), 58 D3/2+I (out), 59 D3/2-I (out), 60 D1/0+I (out), 61 D1/0-I (out), 62 VDR (power), 63 DRGND (power), 64 VA3.0 (power), 65 AGND (power), 66 VIN+I (in), 67 VIN-I (in), 68 AGND (power), 69 Thermal Pad (power)

## ADC16V130CISQ
designator U?
16-Bit, 130 MSPS A/D Converter with LVDS Outputs, 65-pin LLP; PartNumber: ADC16V130CISQ; Manufacturer: National Semiconductor; PackageTopMarking: NS*UZXYTT*ADC16V130; PowerWise: Y; CompType: ADC IC; Published: 4-Dec-2008; DatasheetVersion: Apr-2009; PackageVersion: revA, Apr-2006; PackageReference: SQA64A; Publisher: Altium Limited; PackageDescription: LLP, Quad, 9 x 9 x 0.8mm, 64 Lead, 0.5mm Pitch, No Pullback; Supplier 1: Farnell; Supplier Part Number 1: 1689553; RoHS: Y; PinCount: 64; ComponentLink1Description: ADC16V130 Datasheet; ComponentLink1URL: http://www.national.com/ds/AD/ADC16V130.pdf; ComponentLink2Description: ADC16V130 Web Page; ComponentLink2URL: http://www.national.com/pf/AD/ADC16V130.html; ComponentLink3Description: SQA64A Package Page; ComponentLink3URL: http://www.national.com/packaging/folders/sqa64a.html
footprint SQA64A (QFN, 64-Leads, Body 9x9mm, Pitch 0.5mm, NSC Recommended)
pins: 1 CLK_SEL/DF (in), 2 VA3.0 (power), 3 AGND (power), 4 VRN, 5 VRN, 6 VRP, 7 VRP, 8 AGND (power), 9 VA1.8 (power), 10 CLK+ (in), 11 CLK- (in), 12 AGND (power), 13 VAD1.8 (power), 14 PD (in), 15 D0- (out), 16 D0+ (out), 17 D1- (out), 18 D1+ (out), 19 D2- (out), 20 D2+ (out), 21 D3- (out), 22 D3+ (out), 23 DRGND (power), 24 VDR (power), 25 D4- (out), 26 D4+ (out), 27 D5- (out), 28 D5+ (out), 29 D6- (out), 30 D6+ (out), 31 D7- (out), 32 D7+ (out), 33 OUTCLK- (out), 34 OUTCLK+ (out), 35 D8- (out), 36 D8+ (out), 37 D9- (out), 38 D9+ (out), 39 D10- (out), 40 D10+ (out), 41 D11- (out), 42 D11+ (out), 43 DRGND (power), 44 VDR (power), 45 D12- (out), 46 D12+ (out), 47 D13- (out), 48 D13+ (out), 49 D14- (out), 50 D14+ (out), 51 D15- (out), 52 D15+ (out), 53 OR- (out), 54 OR+ (out), 55 VA3.0 (power), 56 AGND (power), 57 VREF (power), 58 VRM, 59 VA3.0 (power), 60 AGND (power), 61 VIN+ (in), 62 VIN- (in), 63 AGND (power), 64 VA1.8 (power), 65 AGND (power)

## ADC16V130CISQ/NOPB
designator U?
16-Bit, 130 MSPS A/D Converter with LVDS Outputs, 64-pin LLP, Pb-Free; PartNumber: ADC16V130CISQ/NOPB; Manufacturer: National Semiconductor; PackageTopMarking: NS*UZXYTTE#*ADC16V130; PowerWise: Y; CompType: ADC IC; Published: 1-Mar-2010; DatasheetVersion: Apr-2009; PackageVersion: revA, Apr-2006; PackageReference: SQA64A; Publisher: Altium Limited; PackageDescription: LLP, Quad, 9 x 9 x 0.8mm, 64 Lead, 0.5mm Pitch, No Pullback; Supplier 1: Digi-Key; Supplier Part Number 1: ADC16V130CISQ-ND; RoHS: Y; PinCount: 64; ComponentLink1Description: ADC16V130 Datasheet; ComponentLink1URL: http://www.national.com/ds/AD/ADC16V130.pdf; ComponentLink2Description: ADC16V130 Web Page; ComponentLink2URL: http://www.national.com/pf/AD/ADC16V130.html; ComponentLink3Description: SQA64A Package Page; ComponentLink3URL: http://www.national.com/packaging/folders/sqa64a.html
footprint SQA64A (QFN, 64-Leads, Body 9x9mm, Pitch 0.5mm, NSC Recommended)
pins: 1 CLK_SEL/DF (in), 2 VA3.0 (power), 3 AGND (power), 4 VRN, 5 VRN, 6 VRP, 7 VRP, 8 AGND (power), 9 VA1.8 (power), 10 CLK+ (in), 11 CLK- (in), 12 AGND (power), 13 VAD1.8 (power), 14 PD (in), 15 D0- (out), 16 D0+ (out), 17 D1- (out), 18 D1+ (out), 19 D2- (out), 20 D2+ (out), 21 D3- (out), 22 D3+ (out), 23 DRGND (power), 24 VDR (power), 25 D4- (out), 26 D4+ (out), 27 D5- (out), 28 D5+ (out), 29 D6- (out), 30 D6+ (out), 31 D7- (out), 32 D7+ (out), 33 OUTCLK- (out), 34 OUTCLK+ (out), 35 D8- (out), 36 D8+ (out), 37 D9- (out), 38 D9+ (out), 39 D10- (out), 40 D10+ (out), 41 D11- (out), 42 D11+ (out), 43 DRGND (power), 44 VDR (power), 45 D12- (out), 46 D12+ (out), 47 D13- (out), 48 D13+ (out), 49 D14- (out), 50 D14+ (out), 51 D15- (out), 52 D15+ (out), 53 OR- (out), 54 OR+ (out), 55 VA3.0 (power), 56 AGND (power), 57 VREF (power), 58 VRM, 59 VA3.0 (power), 60 AGND (power), 61 VIN+ (in), 62 VIN- (in), 63 AGND (power), 64 VA1.8 (power), 65 AGND (power)

## ADC16V130CISQE/NOPB
designator U?
16-Bit, 130 MSPS A/D Converter with LVDS Outputs, 64-pin LLP, Pb-Free; PartNumber: ADC16V130CISQE/NOPB; Manufacturer: National Semiconductor; PackageTopMarking: NS*UZXYTTE#*ADC16V130; PowerWise: Y; CompType: ADC IC; Published: 1-Mar-2010; DatasheetVersion: Apr-2009; PackageVersion: revA, Apr-2006; PackageReference: SQA64A; Publisher: Altium Limited; PackageDescription: LLP, Quad, 9 x 9 x 0.8mm, 64 Lead, 0.5mm Pitch, No Pullback; Supplier 1: Digi-Key; Supplier Part Number 1: ADC16V130CISQETR-ND; Supplier 2: Digi-Key; Supplier Part Number 2: ADC16V130CISQECT-ND; Supplier 3: Digi-Key; Supplier Part Number 3: ADC16V130CISQEDKR-ND; RoHS: Y; PinCount: 64; ComponentLink1Description: ADC16V130 Datasheet; ComponentLink1URL: http://www.national.com/ds/AD/ADC16V130.pdf; ComponentLink2Description: ADC16V130 Web Page; ComponentLink2URL: http://www.national.com/pf/AD/ADC16V130.html; ComponentLink3Description: SQA64A Package Page; ComponentLink3URL: http://www.national.com/packaging/folders/sqa64a.html
footprint SQA64A (QFN, 64-Leads, Body 9x9mm, Pitch 0.5mm, NSC Recommended)
pins: 1 CLK_SEL/DF (in), 2 VA3.0 (power), 3 AGND (power), 4 VRN, 5 VRN, 6 VRP, 7 VRP, 8 AGND (power), 9 VA1.8 (power), 10 CLK+ (in), 11 CLK- (in), 12 AGND (power), 13 VAD1.8 (power), 14 PD (in), 15 D0- (out), 16 D0+ (out), 17 D1- (out), 18 D1+ (out), 19 D2- (out), 20 D2+ (out), 21 D3- (out), 22 D3+ (out), 23 DRGND (power), 24 VDR (power), 25 D4- (out), 26 D4+ (out), 27 D5- (out), 28 D5+ (out), 29 D6- (out), 30 D6+ (out), 31 D7- (out), 32 D7+ (out), 33 OUTCLK- (out), 34 OUTCLK+ (out), 35 D8- (out), 36 D8+ (out), 37 D9- (out), 38 D9+ (out), 39 D10- (out), 40 D10+ (out), 41 D11- (out), 42 D11+ (out), 43 DRGND (power), 44 VDR (power), 45 D12- (out), 46 D12+ (out), 47 D13- (out), 48 D13+ (out), 49 D14- (out), 50 D14+ (out), 51 D15- (out), 52 D15+ (out), 53 OR- (out), 54 OR+ (out), 55 VA3.0 (power), 56 AGND (power), 57 VREF (power), 58 VRM, 59 VA3.0 (power), 60 AGND (power), 61 VIN+ (in), 62 VIN- (in), 63 AGND (power), 64 VA1.8 (power), 65 AGND (power)

## ADC16V130CISQX/NOPB
designator U?
16-Bit, 130 MSPS A/D Converter with LVDS Outputs, 64-pin LLP, Pb-Free; PartNumber: ADC16V130CISQX/NOPB; Manufacturer: National Semiconductor; PackageTopMarking: NS*UZXYTTE#*ADC16V130; PowerWise: N; CompType: ADC IC; Published: 1-Mar-2010; DatasheetVersion: Apr-2009; PackageVersion: revA, Apr-2006; PackageReference: SQA64A; Publisher: Altium Limited; PackageDescription: LLP, Quad, 9 x 9 x 0.8mm, 64 Lead, 0.5mm Pitch, No Pullback; Supplier 1: Digi-Key; Supplier Part Number 1: ADC16V130CISQX-ND; RoHS: Y; PinCount: 64; ComponentLink1Description: ADC16V130 Datasheet; ComponentLink1URL: http://www.national.com/ds/AD/ADC16V130.pdf; ComponentLink2Description: ADC16V130 Web Page; ComponentLink2URL: http://www.national.com/pf/AD/ADC16V130.html; ComponentLink3Description: SQA64A Package Page; ComponentLink3URL: http://www.national.com/packaging/folders/sqa64a.html
footprint SQA64A (QFN, 64-Leads, Body 9x9mm, Pitch 0.5mm, NSC Recommended)
pins: 1 CLK_SEL/DF (in), 2 VA3.0 (power), 3 AGND (power), 4 VRN, 5 VRN, 6 VRP, 7 VRP, 8 AGND (power), 9 VA1.8 (power), 10 CLK+ (in), 11 CLK- (in), 12 AGND (power), 13 VAD1.8 (power), 14 PD (in), 15 D0- (out), 16 D0+ (out), 17 D1- (out), 18 D1+ (out), 19 D2- (out), 20 D2+ (out), 21 D3- (out), 22 D3+ (out), 23 DRGND (power), 24 VDR (power), 25 D4- (out), 26 D4+ (out), 27 D5- (out), 28 D5+ (out), 29 D6- (out), 30 D6+ (out), 31 D7- (out), 32 D7+ (out), 33 OUTCLK- (out), 34 OUTCLK+ (out), 35 D8- (out), 36 D8+ (out), 37 D9- (out), 38 D9+ (out), 39 D10- (out), 40 D10+ (out), 41 D11- (out), 42 D11+ (out), 43 DRGND (power), 44 VDR (power), 45 D12- (out), 46 D12+ (out), 47 D13- (out), 48 D13+ (out), 49 D14- (out), 50 D14+ (out), 51 D15- (out), 52 D15+ (out), 53 OR- (out), 54 OR+ (out), 55 VA3.0 (power), 56 AGND (power), 57 VREF (power), 58 VRM, 59 VA3.0 (power), 60 AGND (power), 61 VIN+ (in), 62 VIN- (in), 63 AGND (power), 64 VA1.8 (power), 65 AGND (power)

## ADC78H89CIMT
designator U?
7-Channel, 500 kSPS, 12-Bit A/D Converter, 16-pin TSSOP; PartNumber: ADC78H89CIMT; Manufacturer: National Semiconductor; PackageTopMarking: NSUZXYTT*78H89*CIMT; PowerWise: Y; CompType: ADC IC; Published: 4-Dec-2008; DatasheetVersion: Apr-2003; PackageVersion: revD, Jun-2003; PackageReference: MTC16; Publisher: Altium Limited; PackageDescription: Molded TSSOP, Jedec, 5 x 4.4 x 0.9mm Body, 16 Lead, 0.65mm Pitch; Supplier 1: Farnell; Supplier Part Number 1: 9779752; RoHS: N; PinCount: 16; Code_JEDEC: MO-153-AB; ComponentLink1Description: ADC78H89 Datasheet; ComponentLink1URL: http://www.national.com/ds/AD/ADC78H89.pdf; ComponentLink2Description: ADC78H89 Web Page; ComponentLink2URL: http://www.national.com/pf/AD/ADC78H89.html; ComponentLink3Description: MTC16 Package Page; ComponentLink3URL: http://www.national.com/packaging/folders/mtc16.html
footprint MTC16_N (TSOP, 16-Leads, Body 5x4.4mm, Pitch 0.65mm, IPC Medium Density)
footprint MTC16_L (TSOP, 16-Leads, Body 5x4.4mm, Pitch 0.65mm, IPC High Density)
footprint MTC16_M (TSOP, 16-Leads, Body 5x4.4mm, Pitch 0.65mm, IPC Low Density)
pins: 1 ~{CS} (in), 2 NC, 3 AVDD (power), 4 GND (power), 5 AIN1 (in), 6 AIN2 (in), 7 AIN3 (in), 8 AIN4 (in), 9 AIN5 (in), 10 AIN6 (in), 11 AIN7 (in), 12 GND (power), 13 DVDD (power), 14 DIN (in), 15 DOUT (out), 16 SCLK (in)

## ADC78H89CIMT/NOPB
designator U?
7-Channel, 500 kSPS, 12-Bit A/D Converter, 16-pin TSSOP, Pb-Free; PartNumber: ADC78H89CIMT/NOPB; Manufacturer: National Semiconductor; PackageTopMarking: NSUZXYTT*78H89*CIMT; PowerWise: Y; CompType: ADC IC; Published: 1-Mar-2010; DatasheetVersion: Apr-2003; PackageVersion: revD, Jun-2003; PackageReference: MTC16; Publisher: Altium Limited; PackageDescription: Molded TSSOP, Jedec, 5 x 4.4 x 0.9mm Body, 16 Lead, 0.65mm Pitch; Supplier 1: Digi-Key; Supplier Part Number 1: ADC78H89CIMT-ND; RoHS: Y; PinCount: 16; Code_JEDEC: MO-153-AB; ComponentLink1Description: ADC78H89 Datasheet; ComponentLink1URL: http://www.national.com/ds/AD/ADC78H89.pdf; ComponentLink2Description: ADC78H89 Web Page; ComponentLink2URL: http://www.national.com/pf/AD/ADC78H89.html; ComponentLink3Description: MTC16 Package Page; ComponentLink3URL: http://www.national.com/packaging/folders/mtc16.html
footprint MTC16_N (TSOP, 16-Leads, Body 5x4.4mm, Pitch 0.65mm, IPC Medium Density)
footprint MTC16_L (TSOP, 16-Leads, Body 5x4.4mm, Pitch 0.65mm, IPC High Density)
footprint MTC16_M (TSOP, 16-Leads, Body 5x4.4mm, Pitch 0.65mm, IPC Low Density)
pins: 1 ~{CS} (in), 2 NC, 3 AVDD (power), 4 GND (power), 5 AIN1 (in), 6 AIN2 (in), 7 AIN3 (in), 8 AIN4 (in), 9 AIN5 (in), 10 AIN6 (in), 11 AIN7 (in), 12 GND (power), 13 DVDD (power), 14 DIN (in), 15 DOUT (out), 16 SCLK (in)

## ADC78H89CIMTX
designator U?
7-Channel, 500 kSPS, 12-Bit A/D Converter, 16-pin TSSOP; PartNumber: ADC78H89CIMTX; Manufacturer: National Semiconductor; PackageTopMarking: NSUZXYTT*78H89*CIMT; PowerWise: Y; CompType: ADC IC; Published: 1-Mar-2010; DatasheetVersion: Apr-2003; PackageVersion: revD, Jun-2003; PackageReference: MTC16; Publisher: Altium Limited; PackageDescription: Molded TSSOP, Jedec, 5 x 4.4 x 0.9mm Body, 16 Lead, 0.65mm Pitch; RoHS: N; PinCount: 16; Code_JEDEC: MO-153-AB; ComponentLink1Description: ADC78H89 Datasheet; ComponentLink1URL: http://www.national.com/ds/AD/ADC78H89.pdf; ComponentLink2Description: ADC78H89 Web Page; ComponentLink2URL: http://www.national.com/pf/AD/ADC78H89.html; ComponentLink3Description: MTC16 Package Page; ComponentLink3URL: http://www.national.com/packaging/folders/mtc16.html
footprint MTC16_N (TSOP, 16-Leads, Body 5x4.4mm, Pitch 0.65mm, IPC Medium Density)
footprint MTC16_L (TSOP, 16-Leads, Body 5x4.4mm, Pitch 0.65mm, IPC High Density)
footprint MTC16_M (TSOP, 16-Leads, Body 5x4.4mm, Pitch 0.65mm, IPC Low Density)
pins: 1 ~{CS} (in), 2 NC, 3 AVDD (power), 4 GND (power), 5 AIN1 (in), 6 AIN2 (in), 7 AIN3 (in), 8 AIN4 (in), 9 AIN5 (in), 10 AIN6 (in), 11 AIN7 (in), 12 GND (power), 13 DVDD (power), 14 DIN (in), 15 DOUT (out), 16 SCLK (in)

## ADC78H90CIMT
designator U?
8-Channel, 500 kSPS, 12-Bit A/D Converter, 16-pin TSSOP; PartNumber: ADC78H90CIMT; Manufacturer: National Semiconductor; PackageTopMarking: NSUZXYTT*78H90*CIMT; PowerWise: Y; CompType: ADC IC; Published: 4-Dec-2008; DatasheetVersion: Nov-2003; PackageVersion: revD, Jun-2003; PackageReference: MTC16; Publisher: Altium Limited; PackageDescription: Molded TSSOP, Jedec, 5 x 4.4 x 0.9mm Body, 16 Lead, 0.65mm Pitch; Supplier 1: Farnell; Supplier Part Number 1: 9779744; RoHS: N; PinCount: 16; Code_JEDEC: MO-153-AB; ComponentLink1Description: ADC78H90 Datasheet; ComponentLink1URL: http://www.national.com/ds/AD/ADC78H90.pdf; ComponentLink2Description: ADC78H90 Web Page; ComponentLink2URL: http://www.national.com/pf/AD/ADC78H90.html; ComponentLink3Description: MTC16 Package Page; ComponentLink3URL: http://www.national.com/packaging/folders/mtc16.html
footprint MTC16_N (TSOP, 16-Leads, Body 5x4.4mm, Pitch 0.65mm, IPC Medium Density)
footprint MTC16_L (TSOP, 16-Leads, Body 5x4.4mm, Pitch 0.65mm, IPC High Density)
footprint MTC16_M (TSOP, 16-Leads, Body 5x4.4mm, Pitch 0.65mm, IPC Low Density)
pins: 1 ~{CS} (in), 2 AVDD (power), 3 AGND (power), 4 AIN1 (in), 5 AIN2 (in), 6 AIN3 (in), 7 AIN4 (in), 8 AIN5 (in), 9 AIN6 (in), 10 AIN7 (in), 11 AIN8 (in), 12 DGND (power), 13 DVDD (power), 14 DIN (in), 15 DOUT (out), 16 SCLK (in)

## ADC78H90CIMT/NOPB
designator U?
8-Channel, 500 kSPS, 12-Bit A/D Converter, 16-pin TSSOP, Pb-Free; PartNumber: ADC78H90CIMT/NOPB; Manufacturer: National Semiconductor; PackageTopMarking: NSUZXYTT*78H90*CIMT; PowerWise: Y; CompType: ADC IC; Published: 1-Mar-2010; DatasheetVersion: Nov-2003; PackageVersion: revD, Jun-2003; PackageReference: MTC16; Publisher: Altium Limited; PackageDescription: Molded TSSOP, Jedec, 5 x 4.4 x 0.9mm Body, 16 Lead, 0.65mm Pitch; Supplier 1: Digi-Key; Supplier Part Number 1: ADC78H90CIMT-ND; Supplier 2: Farnell; Supplier Part Number 2: 1693928; RoHS: Y; PinCount: 16; Code_JEDEC: MO-153-AB; ComponentLink1Description: ADC78H90 Datasheet; ComponentLink1URL: http://www.national.com/ds/AD/ADC78H90.pdf; ComponentLink2Description: ADC78H90 Web Page; ComponentLink2URL: http://www.national.com/pf/AD/ADC78H90.html; ComponentLink3Description: MTC16 Package Page; ComponentLink3URL: http://www.national.com/packaging/folders/mtc16.html
footprint MTC16_N (TSOP, 16-Leads, Body 5x4.4mm, Pitch 0.65mm, IPC Medium Density)
footprint MTC16_L (TSOP, 16-Leads, Body 5x4.4mm, Pitch 0.65mm, IPC High Density)
footprint MTC16_M (TSOP, 16-Leads, Body 5x4.4mm, Pitch 0.65mm, IPC Low Density)
pins: 1 ~{CS} (in), 2 AVDD (power), 3 AGND (power), 4 AIN1 (in), 5 AIN2 (in), 6 AIN3 (in), 7 AIN4 (in), 8 AIN5 (in), 9 AIN6 (in), 10 AIN7 (in), 11 AIN8 (in), 12 DGND (power), 13 DVDD (power), 14 DIN (in), 15 DOUT (out), 16 SCLK (in)

## ADC78H90CIMTX
designator U?
8-Channel, 500 kSPS, 12-Bit A/D Converter, 16-pin TSSOP; PartNumber: ADC78H90CIMTX; Manufacturer: National Semiconductor; PackageTopMarking: NSUZXYTT*78H90*CIMT; PowerWise: Y; CompType: ADC IC; Published: 1-Mar-2010; DatasheetVersion: Nov-2003; PackageVersion: revD, Jun-2003; PackageReference: MTC16; Publisher: Altium Limited; PackageDescription: Molded TSSOP, Jedec, 5 x 4.4 x 0.9mm Body, 16 Lead, 0.65mm Pitch; RoHS: N; PinCount: 16; Code_JEDEC: MO-153-AB; ComponentLink1Description: ADC78H90 Datasheet; ComponentLink1URL: http://www.national.com/ds/AD/ADC78H90.pdf; ComponentLink2Description: ADC78H90 Web Page; ComponentLink2URL: http://www.national.com/pf/AD/ADC78H90.html; ComponentLink3Description: MTC16 Package Page; ComponentLink3URL: http://www.national.com/packaging/folders/mtc16.html
footprint MTC16_N (TSOP, 16-Leads, Body 5x4.4mm, Pitch 0.65mm, IPC Medium Density)
footprint MTC16_L (TSOP, 16-Leads, Body 5x4.4mm, Pitch 0.65mm, IPC High Density)
footprint MTC16_M (TSOP, 16-Leads, Body 5x4.4mm, Pitch 0.65mm, IPC Low Density)
pins: 1 ~{CS} (in), 2 AVDD (power), 3 AGND (power), 4 AIN1 (in), 5 AIN2 (in), 6 AIN3 (in), 7 AIN4 (in), 8 AIN5 (in), 9 AIN6 (in), 10 AIN7 (in), 11 AIN8 (in), 12 DGND (power), 13 DVDD (power), 14 DIN (in), 15 DOUT (out), 16 SCLK (in)

## ADC081C021CIMK
designator U?
I2C-Compatible, 8-Bit Analog-to-Digital Converter (ADC) with Alert Pin, 6-pin Tiny SOT23; PartNumber: ADC081C021CIMK; Manufacturer: National Semiconductor; PackageTopMarking: X34C*XTT; PowerWise: N; CompType: ADC IC; Published: 4-Dec-2008; DatasheetVersion: Feb-2009; PackageVersion: revE, Nov-2008; PackageReference: MK06A; Publisher: Altium Limited; PackageDescription: Molded TSOT, 2.97 x 1.65 x 0.87mm Body, 6 Lead, 0.95mm Pitch; RoHS: Y; PinCount: 6; Code_JEDEC: MO-193-AA; Code_IPC: SOT26A-6; ComponentLink1Description: ADC081C021 Datasheet; ComponentLink1URL: http://www.national.com/ds/AD/ADC081C021.pdf; ComponentLink2Description: ADC081C021 Web Page; ComponentLink2URL: http://www.national.com/pf/AD/ADC081C021.html; ComponentLink3Description: MK06A Package Page; ComponentLink3URL: http://www.national.com/packaging/folders/mk06a.html
footprint MK06A_N (SOT23, 6-Leads, Body 3.0x1.7mm, Pitch 0.95mm, Lead Span 2.9mm, IPC Medium Density)
footprint MK06A_L (SOT23, 6-Leads, Body 3.0x1.7mm, Pitch 0.95mm, Lead Span 2.9mm, IPC High Density)
footprint MK06A_M (SOT23, 6-Leads, Body 3.0x1.7mm, Pitch 0.95mm, Lead Span 2.9mm, IPC Low Density)
pins: 1 VA (power), 2 GND (power), 3 VIN (in), 4 ALERT (oc), 5 SCL (in), 6 SDA (io)

## ADC081C021CIMK/NOPB
designator U?
I2C-Compatible, 8-Bit Analog-to-Digital Converter with Alert Pin, 6-pin Tiny SOT23, Pb-Free; PartNumber: ADC081C021CIMK/NOPB; Manufacturer: National Semiconductor; PackageTopMarking: X34C*XTT; PowerWise: N; CompType: ADC IC; Published: 1-Mar-2010; DatasheetVersion: Feb-2009; PackageVersion: revE, Nov-2008; PackageReference: MK06A; Publisher: Altium Limited; PackageDescription: Molded TSOT, 2.97 x 1.65 x 0.87mm Body, 6 Lead, 0.95mm Pitch; Supplier 1: Digi-Key; Supplier Part Number 1: ADC081C021CIMKTR-ND; Supplier 2: Digi-Key; Supplier Part Number 2: ADC081C021CIMKCT-ND; Supplier 3: Digi-Key; Supplier Part Number 3: ADC081C021CIMKDKR-ND; Supplier 4: Farnell; Supplier Part Number 4: 1674010; RoHS: Y; PinCount: 6; Code_JEDEC: MO-193-AA; Code_IPC: SOT26A-6; ComponentLink1Description: ADC081C021 Datasheet; ComponentLink1URL: http://www.national.com/ds/AD/ADC081C021.pdf; ComponentLink2Description: ADC081C021 Web Page; ComponentLink2URL: http://www.national.com/pf/AD/ADC081C021.html; ComponentLink3Description: MK06A Package Page; ComponentLink3URL: http://www.national.com/packaging/folders/mk06a.html
footprint MK06A_N (SOT23, 6-Leads, Body 3.0x1.7mm, Pitch 0.95mm, Lead Span 2.9mm, IPC Medium Density)
footprint MK06A_L (SOT23, 6-Leads, Body 3.0x1.7mm, Pitch 0.95mm, Lead Span 2.9mm, IPC High Density)
footprint MK06A_M (SOT23, 6-Leads, Body 3.0x1.7mm, Pitch 0.95mm, Lead Span 2.9mm, IPC Low Density)
pins: 1 VA (power), 2 GND (power), 3 VIN (in), 4 ALERT (oc), 5 SCL (in), 6 SDA (io)

## ADC081C021CIMKX/NOPB
designator U?
I2C-Compatible, 8-Bit Analog-to-Digital Converter with Alert Pin, 6-pin Tiny SOT23, Pb-Free; PartNumber: ADC081C021CIMKX/NOPB; Manufacturer: National Semiconductor; PackageTopMarking: X34C*XTT; PowerWise: N; CompType: ADC IC; Published: 1-Mar-2010; DatasheetVersion: Feb-2009; PackageVersion: revE, Nov-2008; PackageReference: MK06A; Publisher: Altium Limited; PackageDescription: Molded TSOT, 2.97 x 1.65 x 0.87mm Body, 6 Lead, 0.95mm Pitch; Supplier 1: Digi-Key; Supplier Part Number 1: ADC081C021CIMKX-ND; RoHS: Y; PinCount: 6; Code_JEDEC: MO-193-AA; Code_IPC: SOT26A-6; ComponentLink1Description: ADC081C021 Datasheet; ComponentLink1URL: http://www.national.com/ds/AD/ADC081C021.pdf; ComponentLink2Description: ADC081C021 Web Page; ComponentLink2URL: http://www.national.com/pf/AD/ADC081C021.html; ComponentLink3Description: MK06A Package Page; ComponentLink3URL: http://www.national.com/packaging/folders/mk06a.html
footprint MK06A_N (SOT23, 6-Leads, Body 3.0x1.7mm, Pitch 0.95mm, Lead Span 2.9mm, IPC Medium Density)
footprint MK06A_L (SOT23, 6-Leads, Body 3.0x1.7mm, Pitch 0.95mm, Lead Span 2.9mm, IPC High Density)
footprint MK06A_M (SOT23, 6-Leads, Body 3.0x1.7mm, Pitch 0.95mm, Lead Span 2.9mm, IPC Low Density)
pins: 1 VA (power), 2 GND (power), 3 VIN (in), 4 ALERT (oc), 5 SCL (in), 6 SDA (io)

## ADC081C021CIMM
designator U?
I2C-Compatible, 8-Bit Analog-to-Digital Converter with Alert Pin, 8-pin Mini SOIC; PartNumber: ADC081C021CIMM; Manufacturer: National Semiconductor; PackageTopMarking: ZXTT*X36C; PowerWise: N; CompType: ADC IC; Published: 29-May-2009; DatasheetVersion: Feb-2009; PackageVersion: revF, Apr-2008; PackageReference: MUA08A; Publisher: Altium Limited; PackageDescription: MINI SOIC, .118 x .118 x .034in, 8 Lead, .0256in Pitch; RoHS: Y; PinCount: 8; Code_JEDEC: MO-187-AA; ComponentLink1Description: ADC081C021 Datasheet; ComponentLink1URL: http://www.national.com/ds/AD/ADC081C021.pdf; ComponentLink2Description: ADC081C021 Web Page; ComponentLink2URL: http://www.national.com/pf/AD/ADC081C021.html; ComponentLink3Description: MUA08A Package Page; ComponentLink3URL: http://www.national.com/packaging/folders/mua08a.html
footprint MUA08A_N (TSOP, 8-Leads, Body 3x3mm, Pitch 0.65mm, IPC Medium Density)
footprint MUA08A_L (TSOP, 8-Leads, Body 3x3mm, Pitch 0.65mm, IPC High Density)
footprint MUA08A_M (TSOP, 8-Leads, Body 3x3mm, Pitch 0.65mm, IPC Low Density)
pins: 1 SCL (in), 2 ALERT (oc), 3 ADDR0 (in), 4 VIN (in), 5 VA (power), 6 ADDR1 (in), 7 GND (power), 8 SDA (io)